# EAGLE library part IS66WV51216 (library Mine)
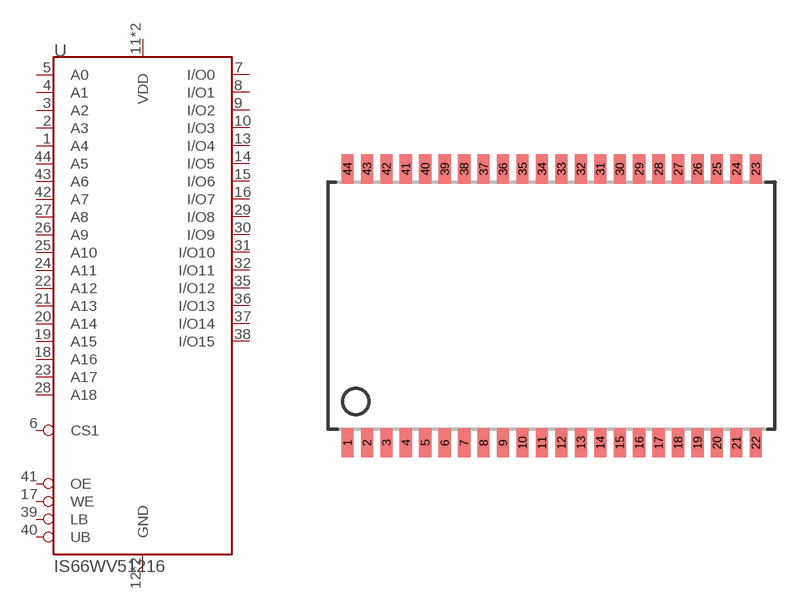
[diagram p68: symbol with the pads of TSOPII-Z44; footprint TSOPII-Z44]

Designator prefix -

## IS66WV51216  [TSOPII-Z44]
1  A4  in
2  A3  in
3  A2  in
4  A1  in
5  A0  in
6  CS1  in
7  I/O0
8  I/O1
9  I/O2
10  I/O3
11  VDD  sup
12  GND  sup
13  I/O4
14  I/O5
15  I/O6
16  I/O7
17  WE  in
18  A16  in
19  A15  in
20  A14  in
21  A13  in
22  A12  in
23  A17  in
24  A11  in
25  A10  in
26  A9  in
27  A8  in
28  A18  in
29  I/O8
30  I/O9
31  I/O10
32  I/O11
33  VDD  sup
34  GND  sup
35  I/O12
36  I/O13
37  I/O14
38  I/O15
39  LB  in
40  UB  in
41  OE  in
42  A7  in
43  A6  in
44  A5  in

## Footprint TSOPII-Z44 (pad centres in mm)
44 PIN TSOP II Z44 Source: CYPRESS cy7c1049cv33_8.pdf
smd 0.5 x 1.2: 1 -8.4,-5.627; 2 -7.6,-5.627; 3 -6.8,-5.627; 4 -6,-5.627; 5 -5.2,-5.627; 6 -4.4,-5.627; 7 -3.6,-5.627; 8 -2.8,-5.627; 9 -2,-5.627; 10 -1.2,-5.627; 11 -0.4,-5.627; 12 0.4,-5.627; 13 1.2,-5.627; 14 2,-5.627; 15 2.8,-5.627; 16 3.6,-5.627; 17 4.4,-5.627; 18 5.2,-5.627; 19 6,-5.627; 20 6.8,-5.627; 21 7.6,-5.627; 22 8.4,-5.627; 23 8.4,5.627; 24 7.6,5.627; 25 6.8,5.627; 26 6,5.627; 27 5.2,5.627; 28 4.4,5.627; 29 3.6,5.627; 30 2.8,5.627; 31 2,5.627; 32 1.2,5.627; 33 0.4,5.627; 34 -0.4,5.627; 35 -1.2,5.627; 36 -2,5.627; 37 -2.8,5.627; 38 -3.6,5.627; 39 -4.4,5.627; 40 -5.2,5.627; 41 -6,5.627; 42 -6.8,5.627; 43 -7.6,5.627; 44 -8.4,5.627